# EAGLE library part EOSCOPE_LMG6402PLFR_2X9 (library eOscope)
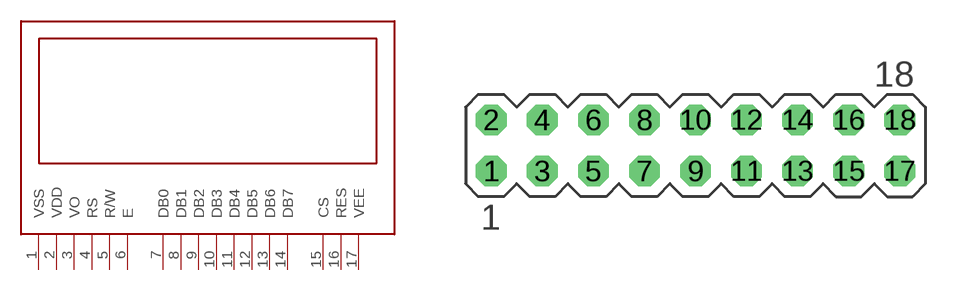
[diagram p15: symbol with the pads of EOSCOPE_MA09-2; footprint EOSCOPE_MA09-2]

Designator prefix -

## EOSCOPE_LMG6402PLFR_2X9  [EOSCOPE_MA09-2]
1  VSS
2  VDD
3  VO
4  RS
5  R/W
6  E
7  DB0
8  DB1
9  DB2
10  DB3
11  DB4
12  DB5
13  DB6
14  DB7
15  CS
16  RES
17  VEE

## Footprint EOSCOPE_MA09-2 (pad centres in mm)
PIN HEADER
drill 1.016 octagon: 1 -10.16,-1.27; 2 -10.16,1.27; 3 -7.62,-1.27; 4 -7.62,1.27; 5 -5.08,-1.27; 6 -5.08,1.27; 7 -2.54,-1.27; 8 -2.54,1.27; 9 0,-1.27; 10 0,1.27; 11 2.54,-1.27; 12 2.54,1.27; 13 5.08,-1.27; 14 5.08,1.27; 15 7.62,-1.27; 16 7.62,1.27; 17 10.16,-1.27; 18 10.16,1.27